# EAGLE library part RJ45-EXTDNC (library con-amphenol-rj45-ld)
dnc
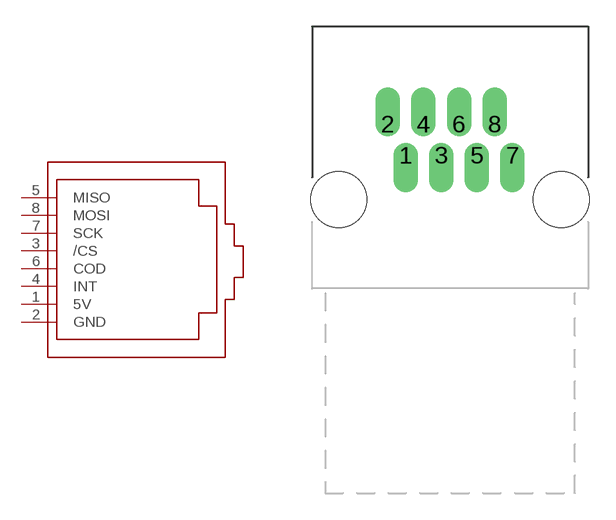
[diagram p2: symbol with the pads of RJ45-TRAFO; footprint RJ45-TRAFO]

Designator prefix -

## RJ45-EXTDNC  [RJ45-TRAFO]
1  5V  sup
2  GND  sup
3  /CS
4  INT  nc
5  MISO
6  COD
7  SCK
8  MOSI

## Footprint RJ45-TRAFO (pad centres in mm)
RJ45 without LED pins
drill 0.9 offset: 1 -2.54,2.54; 2 -3.556,4.318; 3 -0.508,2.54; 4 -1.524,4.318; 5 1.524,2.54; 6 0.508,4.318; 7 3.556,2.54; 8 2.54,4.318
hole 3.2 at -6.35,0
hole 3.2 at 6.35,0